# EAGLE library part DRIVER (library libliblib)
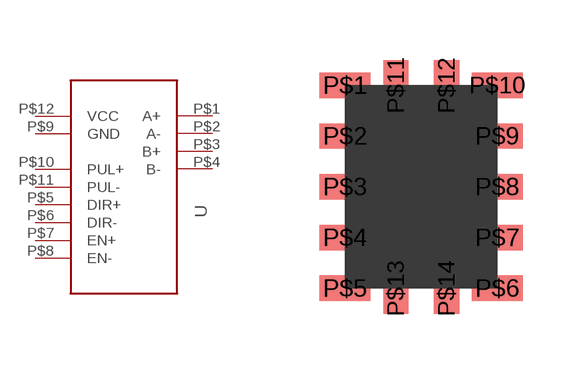
[diagram p0: symbol with the pads of DRIVER; footprint DRIVER]

Designator prefix -

## DRIVER  [DRIVER]
P$1  A+
P$2  A-
P$3  B+
P$4  B-
P$5  DIR+
P$6  DIR-
P$7  EN+
P$8  EN-
P$9  GND
P$10  PUL+
P$11  PUL-
P$12  VCC

## Footprint DRIVER (pad centres in mm)
smd 1.27 x 0.635: P$1 0,3.81; P$2 0,2.54; P$3 0,1.27; P$4 0,0; P$5 0,-1.27; P$6 3.81,-1.27; P$7 3.81,0; P$8 3.81,1.27; P$9 3.81,2.54; P$10 3.81,3.81
smd 0.635 x 1.27: P$11 1.27,3.81; P$12 2.54,3.81; P$13 1.27,-1.27; P$14 2.54,-1.27